# Altium schematic symbol library Schlib.SchLib: 8 symbols
Pins are listed as number, name and electrical type; pins without a type are passive.

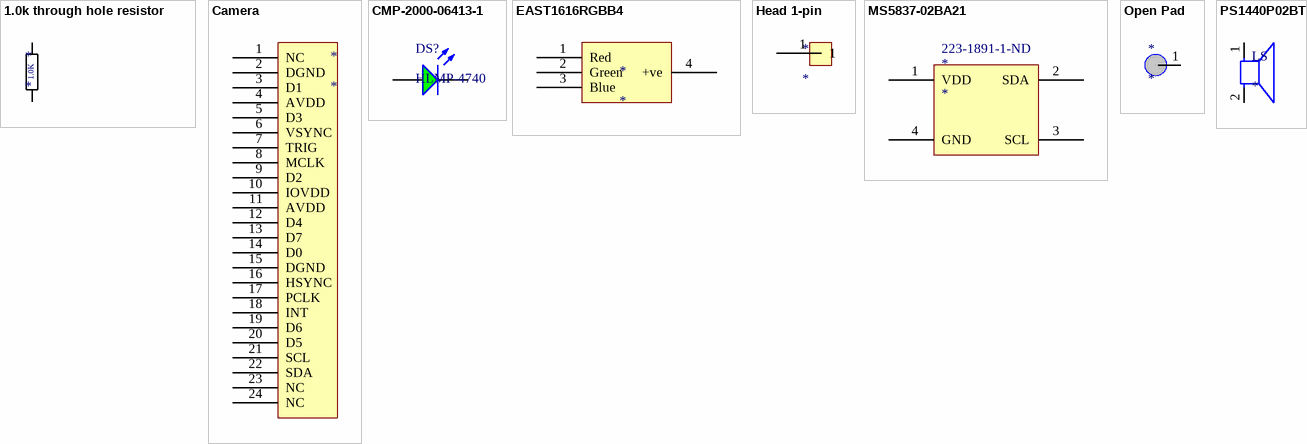
[diagram p0: symbols 1.0k through hole resistor to PS1440P02BT]

## 1.0k through hole resistor
designator *
footprint 1.0k through hole
pins: 1, 2
text: 1.0K

## Camera
designator *
footprint SFV24R-2STE1HLF
pins: 1 NC, 2 DGND, 3 D1, 4 AVDD, 5 D3, 6 VSYNC, 7 TRIG, 8 MCLK, 9 D2, 10 IOVDD, 11 AVDD, 12 D4, 13 D7, 14 D0, 15 DGND, 16 HSYNC, 17 PCLK, 18 INT, 19 D6, 20 D5, 21 SCL, 22 SDA, 23 NC, 24 NC

## CMP-2000-06413-1
designator DS?, comment HLMP-4740
T-1 3/4 (5 mm) Low Current LED Lamp, Green, 1.9 V, -20 to 100 degC, 2-Pin THD, RoHS, Bulk; Manufacturer: AvagoTechnologies; Type: Uni-Color; Peak Wavelength: 565nm; Rad Hard: No; Viewing Angle: 50°; Dominant Wavelength/Color Temperature: 569nm; Number of LEDs: 1; Lens Appearance: ColoredDiffused; Lens Shape Type: Circular; Mounting Orientation: TopMount; Intensity: 2.3mcd; Datasheet Version: 07/2014; Category: LEDs; Datasheet URL: http://docs.avagotech.com/docs/AV02-1557EN; Packaging: Bulk; Pin Count: 2; Mounting Technology: ThroughHole; Package Reference: HLMP-4740; Mounting: ThroughHole; Manufacturer URL: http://www.avagotech.com/; Color: Green; Package: 2T-13/4; Package Description: 2-Pin Through Hole Device, Dia 5.845 mm, Pitch 2.54 mm
footprint AVAG-HLMP-4740 (THD, 2-Leads, Dia 5.845mm, Pitch 2.54mm)
pins: 1 A, 2 K

## EAST1616RGBB4
designator *
footprint EAST1616RGBB4 - duplicate1
pins: 1 Red, 2 Green, 3 Blue, 4 +ve

## Head 1-pin
designator *
footprint Header 1 Pin
pins: 1

## MS5837-02BA21
designator *  Supplier Part Number 1: 223-1891-1-ND
Pressure Sensor, Absolute, 2Bar, I2C; Manufacturer: TE Connectivity; Manufacturer Part Number: MS5837-02BA21; Operating Pressure: 17.4PSI; Port Style: No Port; Max Pressure: 145.04PSI; Supplier 1: Digi-Key; RoHS: No; Stock 1: 5173; Pricing 1: 1=12.98000, 5=11.38800, 10=10.24900, 25=9.11040, 50=8.42700, 100=7.28820, 500=6.83264, 1000=6.37714 (USD); Case/Package: SMD/SMT; Min Operating Temperature: -20°C; Max Operating Temperature: 85°C; Output Type: I2C; Pressure Type: Absolute; Termination: SMD/SMT; RoHS Compliant: Yes; ComponentLink1URL: https://www.te.com/commerce/DocumentDelivery/DDEController?Action=srchrtrv&amp;DocNm=MS5837-02BA01&amp;DocType=DS&amp;DocLang=English&src-supplier=Digi-Key; ComponentLink1Description: https://www.te.com/commerce/DocumentDelivery/DDEController?Action=srchrtrv&amp;DocNm=MS5837-02BA01&amp;DocType=DS&amp;DocLang=English&src-supplier=Digi-Key
footprint MS5837-30BA
pins: 1 VDD, 2 SDA, 3 SCL, 4 GND

## Open Pad
designator *
footprint Open Pad
pins: 1

## PS1440P02BT
designator LS
Buzzers Transducer, Externally Driven Piezo 3V 4kHz 75dB @ 3V, 10cm Through Hole PC Pins; MF: TDK; MP: PS1440P02BT; Digi-Key_Part_Number: 445-5242-1-ND; Package: SOP-8 TDK; Digi-Key_Purchase_URL: https://www.digikey.com/product-detail/en/tdk-corporation/PS1440P02BT/445-5242-1-ND/2236832?utm_source=snapeda&utm_medium=aggregator&utm_campaign=symbol; SnapEDA_Link: https://www.snapeda.com/parts/PS1440P02BT/TDK/view-part/295705/?ref=snap; Value: *
footprint BUZZER_PS1440P02BT
pins: 1, 2